# EAGLE library part TSC2007 (library tsc2046)
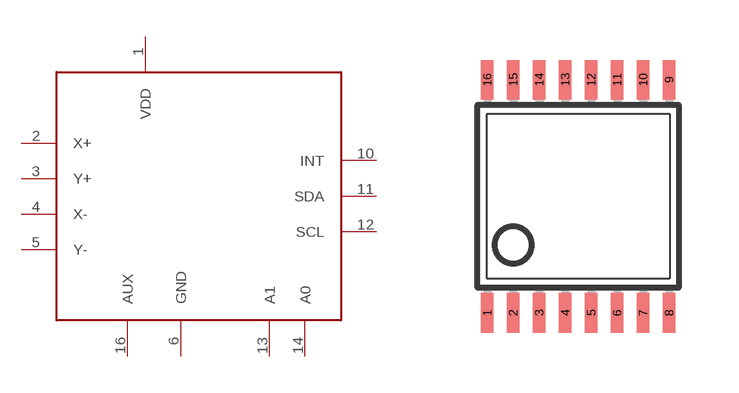
[diagram p1: symbol with the pads of TSSOP16; footprint TSSOP16]

Designator prefix -

## TSC2007  [TSSOP16]
1  VDD
2  X+
3  Y+
4  X-
5  Y-
6  GND
10  INT
11  SDA
12  SCL
13  A1
14  A0
16  AUX

## Footprint TSSOP16 (pad centres in mm)
Thin Shrink Small Outline Plastic 16 MAX3223-MAX3243.pdf
smd 0.305 x 0.991: 1 -2.275,-2.918; 2 -1.625,-2.918; 3 -0.975,-2.918; 4 -0.325,-2.918; 5 0.325,-2.918; 6 0.975,-2.918; 7 1.625,-2.918; 8 2.275,-2.918; 9 2.275,2.918; 10 1.625,2.918; 11 0.975,2.918; 12 0.325,2.918; 13 -0.325,2.918; 14 -0.975,2.918; 15 -1.625,2.918; 16 -2.275,2.918